# Altium schematic symbol library SCH - INTERFACE - USB - MICROCHIP USB3320C-EZK.SchLib: 1 symbol
Pins are listed as number, name and electrical type; pins without a type are passive.

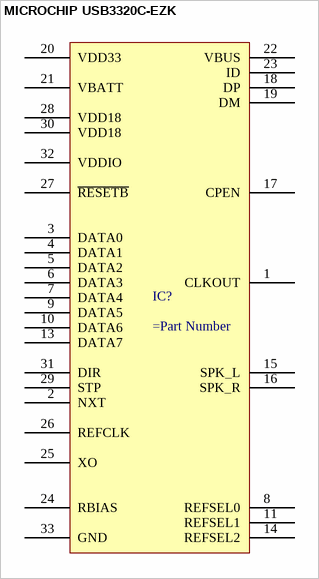
[diagram p0: symbol MICROCHIP USB3320C-EZK]

## MICROCHIP USB3320C-EZK
designator IC?
pins: 1 CLKOUT, 2 NXT, 3 DATA0, 4 DATA1, 5 DATA2, 6 DATA3, 7 DATA4, 8 REFSEL0, 9 DATA5, 10 DATA6, 11 REFSEL1, 13 DATA7, 14 REFSEL2, 15 SPK_L, 16 SPK_R, 17 CPEN, 18 DP, 19 DM, 20 VDD33, 21 VBATT, 22 VBUS, 23 ID, 24 RBIAS, 25 XO, 26 REFCLK, 27 ~{RESETB}, 28 VDD18, 29 STP, 30 VDD18, 31 DIR, 32 VDDIO, 33 GND